# Altium footprint library ic.PcbLib: 38 footprints (part 3 of 3)
Each footprint in its own frame and in the unit in brackets; x right, y up, seen from the top. Pads: shape width x height; smd on the part's side, far side on the other; paste and mask are expansions set on the pad; w line width, h text height; cw(c..) or ccw(c..) is an arc to the next point about the centre after c.
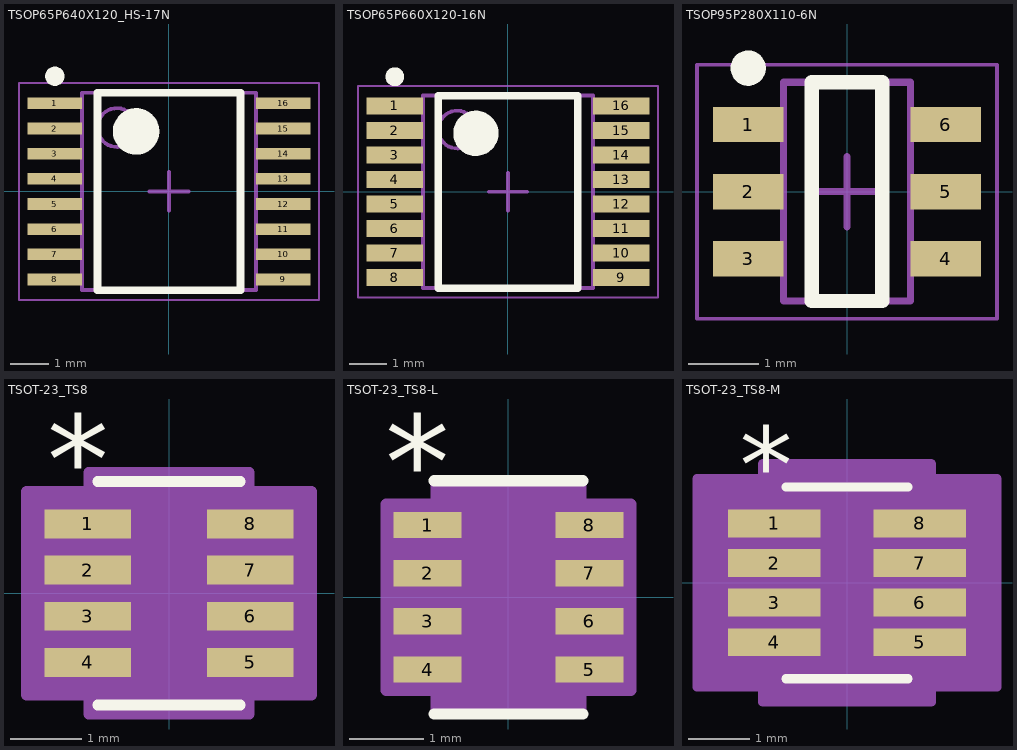
[diagram p2: the footprints below, top view; thin cyan lines are the x and y axes]

## TSOP65P640X120_HS-17N [mm] "TSOP, 16-Leads, Body 5.00x4.40mm, Pitch 0.65mm, Thermal Pad 0.00x0.00mm, IPC Medium Density"
height 1.2
pads (16):
  rect 1.4x0.3 smd: 1(-2.95,2.275) 2(-2.95,1.625) 3(-2.95,0.975) 4(-2.95,0.325) 5(-2.95,-0.325) 6(-2.95,-0.975) 7(-2.95,-1.625) 8(-2.95,-2.275) 9(2.95,-2.275) 10(2.95,-1.625) 11(2.95,-0.975) 12(2.95,-0.325) 13(2.95,0.325) 14(2.95,0.975) 15(2.95,1.625) 16(2.95,2.275)
Top Overlay:
  circle w0.6: c-0.85,1.55 r0.3
  circle w0.25: c-2.95,2.975 r0.125
  lines w0.2: -1.85,-2.55 1.85,-2.55 1.85,2.55 -1.85,2.55 -1.85,-2.55
Mechanical 13:
  circle w0.1: c-1.35,1.65 r0.5
  lines w0.1: -2.25,-2.55 2.25,-2.55 2.25,2.55 -2.25,2.55 -2.25,-2.55
Mechanical 15:
  lines w0.05: -3.875,-2.8 3.875,-2.8 3.875,2.8 -3.875,2.8 -3.875,-2.8
  lines w0.1: -0.5,0 0.5,0 ; 0,-0.5 0,0.5
3D body "TSOP65P640X120_HS-17N.step": height 1.2, standoff 0, extent -3.2,-2.55 3.2,2.55

## TSOP65P660X120-16N [mm] "TSOP, 16-Leads, Body 5.00x4.40mm, Pitch 0.65mm, IPC Medium Density"
height 1.2
pads (16):
  rect 1.5x0.45 smd: 1(-3,2.275) 2(-3,1.625) 3(-3,0.975) 4(-3,0.325) 5(-3,-0.325) 6(-3,-0.975) 7(-3,-1.625) 8(-3,-2.275) 9(3,-2.275) 10(3,-1.625) 11(3,-0.975) 12(3,-0.325) 13(3,0.325) 14(3,0.975) 15(3,1.625) 16(3,2.275)
Top Overlay:
  circle w0.6: c-0.85,1.55 r0.3
  circle w0.25: c-3,3.05 r0.125
  lines w0.2: -1.85,-2.55 1.85,-2.55 1.85,2.55 -1.85,2.55 -1.85,-2.55
Mechanical 13:
  circle w0.1: c-1.35,1.65 r0.5
  lines w0.1: -2.25,-2.55 2.25,-2.55 2.25,2.55 -2.25,2.55 -2.25,-2.55
Mechanical 15:
  lines w0.05: -3.975,-2.8 3.975,-2.8 3.975,2.8 -3.975,2.8 -3.975,-2.8
  lines w0.1: -0.5,0 0.5,0 ; 0,-0.5 0,0.5
3D body "TSOP65P660X120-16N.step": height 1.2, standoff 0, extent -3.3,-2.55 3.3,2.55

## TSOP95P280X110-6N [mm] "TSOP, 6-Leads, Body 2.90x1.60mm, Pitch 0.95mm, IPC Medium Density"
height 1.1
pads (6):
  rect 1x0.5 smd: 1(-1.4,0.95) 2(-1.4,0) 3(-1.4,-0.95) 4(1.4,-0.95) 5(1.4,0) 6(1.4,0.95)
Top Overlay:
  circle w0.25: c-1.4,1.75 r0.125
  lines w0.2: -0.5,-1.55 0.5,-1.55 0.5,1.55 -0.5,1.55 -0.5,-1.55
Mechanical 13:
  lines w0.1: -0.9,-1.55 0.9,-1.55 0.9,1.55 -0.9,1.55 -0.9,-1.55
Mechanical 15:
  lines w0.05: -2.125,-1.8 2.125,-1.8 2.125,1.8 -2.125,1.8 -2.125,-1.8
  lines w0.1: -0.5,0 0.5,0 ; 0,-0.5 0,0.5
3D body "TSOP95P280X110-6N.step": height 1.1, standoff -0.02, extent -1.5,-1.55 1.5,1.55

## TSOT-23_TS8 [mil]
pads (8):
  rect 48x16 smd paste+0 mask+0: 1(-45,38.39) 2(-45,12.8) 3(-45,-12.8) 4(-45,-38.39) 5(45,-38.39) 6(45,-12.8) 7(45,12.8) 8(45,38.39)
Top Overlay:
  lines w6: -39.5,-62 39.5,-62 ; -39.5,62 39.5,62
  text "*" at -67.5,49.39 h50
Mechanical 13:
  lines w0: -12,57 ccw(c0,57) 12,57
  lines w1: -55,-45.39 -55,-31.39 -34.5,-31.39 -34.5,-45.39 -55,-45.39 ; -55,-19.8 -55,-5.8 -34.5,-5.8 -34.5,-19.8 -55,-19.8 ; -55,5.8 -55,19.8 -34.5,19.8 -34.5,5.8 -55,5.8 ; -55,31.39 -55,45.39 -34.5,45.39 -34.5,31.39 -55,31.39 ; -34.5,-57 34.5,-57 34.5,57 -34.5,57 -34.5,-57 ; 34.5,-45.39 34.5,-31.39 55,-31.39 55,-45.39 34.5,-45.39 ; 34.5,-19.8 34.5,-5.8 55,-5.8 55,-19.8 34.5,-19.8 ; 34.5,5.8 34.5,19.8 55,19.8 55,5.8 34.5,5.8 ; 34.5,31.39 34.5,45.39 55,45.39 55,31.39 34.5,31.39
  text "*" at -40,5 h50
Mechanical 15:
  region: -44.5,-56.39 -79,-56.39 -79,56.39 -44.5,56.39 -44.5,67 44.5,67 44.5,56.39 79,56.39 79,-56.39 44.5,-56.39 44.5,-67 -44.5,-67
  lines w6: -79,-56.39 -79,56.39 -44.5,56.39 -44.5,67 44.5,67 44.5,56.39 79,56.39 79,-56.39 44.5,-56.39 44.5,-67 -44.5,-67 -44.5,-56.39 -79,-56.39
3D body: height 23.62, standoff 0, extent -50,-60 45,57.5

## TSOT-23_TS8-L [mil]
pads (8):
  rect 36x14 smd paste+0 mask+0: 1(-43,38.39) 2(-43,12.8) 3(-43,-12.8) 4(-43,-38.39) 5(43,-38.39) 6(43,-12.8) 7(43,12.8) 8(43,38.39)
Top Overlay:
  lines w6: -39.5,-62 39.5,-62 ; -39.5,62 39.5,62
  text "*" at -65.5,47.39 h50
Mechanical 13:
  lines w0: -12,57 ccw(c0,57) 12,57
  lines w1: -55,-45.39 -55,-31.39 -34.5,-31.39 -34.5,-45.39 -55,-45.39 ; -55,-19.8 -55,-5.8 -34.5,-5.8 -34.5,-19.8 -55,-19.8 ; -55,5.8 -55,19.8 -34.5,19.8 -34.5,5.8 -55,5.8 ; -55,31.39 -55,45.39 -34.5,45.39 -34.5,31.39 -55,31.39 ; -34.5,-57 34.5,-57 34.5,57 -34.5,57 -34.5,-57 ; 34.5,-45.39 34.5,-31.39 55,-31.39 55,-45.39 34.5,-45.39 ; 34.5,-19.8 34.5,-5.8 55,-5.8 55,-19.8 34.5,-19.8 ; 34.5,5.8 34.5,19.8 55,19.8 55,5.8 34.5,5.8 ; 34.5,31.39 34.5,45.39 55,45.39 55,31.39 34.5,31.39
  text "*" at -32,4 h50
Mechanical 15:
  region: -38.5,-49.39 -65,-49.39 -65,49.39 -38.5,49.39 -38.5,61 38.5,61 38.5,49.39 65,49.39 65,-49.39 38.5,-49.39 38.5,-61 -38.5,-61
  lines w6: -65,-49.39 -65,49.39 -38.5,49.39 -38.5,61 38.5,61 38.5,49.39 65,49.39 65,-49.39 38.5,-49.39 38.5,-61 -38.5,-61 -38.5,-49.39 -65,-49.39
3D body "TSOT-23_TS8-L.stp": height 39.09, standoff 0, extent -54.99,-57 55,57.01

## TSOT-23_TS8-M [mil]
pads (8):
  rect 60x18 smd paste+0 mask+0: 1(-47,38.39) 2(-47,12.8) 3(-47,-12.8) 4(-47,-38.39) 5(47,-38.39) 6(47,-12.8) 7(47,12.8) 8(47,38.39)
Top Overlay:
  lines w6: -39.5,-62 39.5,-62 ; -39.5,62 39.5,62
  text "*" at -69.5,51.39 h50
Mechanical 13:
  lines w0: -12,57 ccw(c0,57) 12,57
  lines w1: -55,-45.39 -34.5,-45.39 -34.5,-31.39 -55,-31.39 -55,-45.39 ; -55,-19.8 -34.5,-19.8 -34.5,-5.8 -55,-5.8 -55,-19.8 ; -55,5.8 -34.5,5.8 -34.5,19.8 -55,19.8 -55,5.8 ; -55,31.39 -34.5,31.39 -34.5,45.39 -55,45.39 -55,31.39 ; -34.5,-57 -34.5,57 34.5,57 34.5,-57 -34.5,-57 ; 34.5,-45.39 55,-45.39 55,-31.39 34.5,-31.39 34.5,-45.39 ; 34.5,-19.8 55,-19.8 55,-5.8 34.5,-5.8 34.5,-19.8 ; 34.5,5.8 55,5.8 55,19.8 34.5,19.8 34.5,5.8 ; 34.5,31.39 55,31.39 55,45.39 34.5,45.39 34.5,31.39
  text "*" at -32,4 h50
Mechanical 15:
  region: -54.5,-67.39 -97,-67.39 -97,67.39 -54.5,67.39 -54.5,77 54.5,77 54.5,67.39 97,67.39 97,-67.39 54.5,-67.39 54.5,-77 -54.5,-77
  lines w6: -97,-67.39 -54.5,-67.39 -54.5,-77 54.5,-77 54.5,-67.39 97,-67.39 97,67.39 54.5,67.39 54.5,77 -54.5,77 -54.5,67.39 -97,67.39 -97,-67.39
3D body: height 10, standoff 0, extent 0,0 10,10
3D body "TSOT-23_TS8-L.stp": height 39.09, standoff 0, extent -54.99,-57 55.01,57.01